# EAGLE library part TM4C123 (library Bat-Components)
Texas Instrument Tiva-C ARM Cortex M4 - TM4C123GH6ZRB 80 Mhz - Flash 256ko - SRAM 32ko 43 I/0 (16 PWM) 24 ADC channels 12-bits resolution 8 UART - 4 SPI - 6 I2C - USB
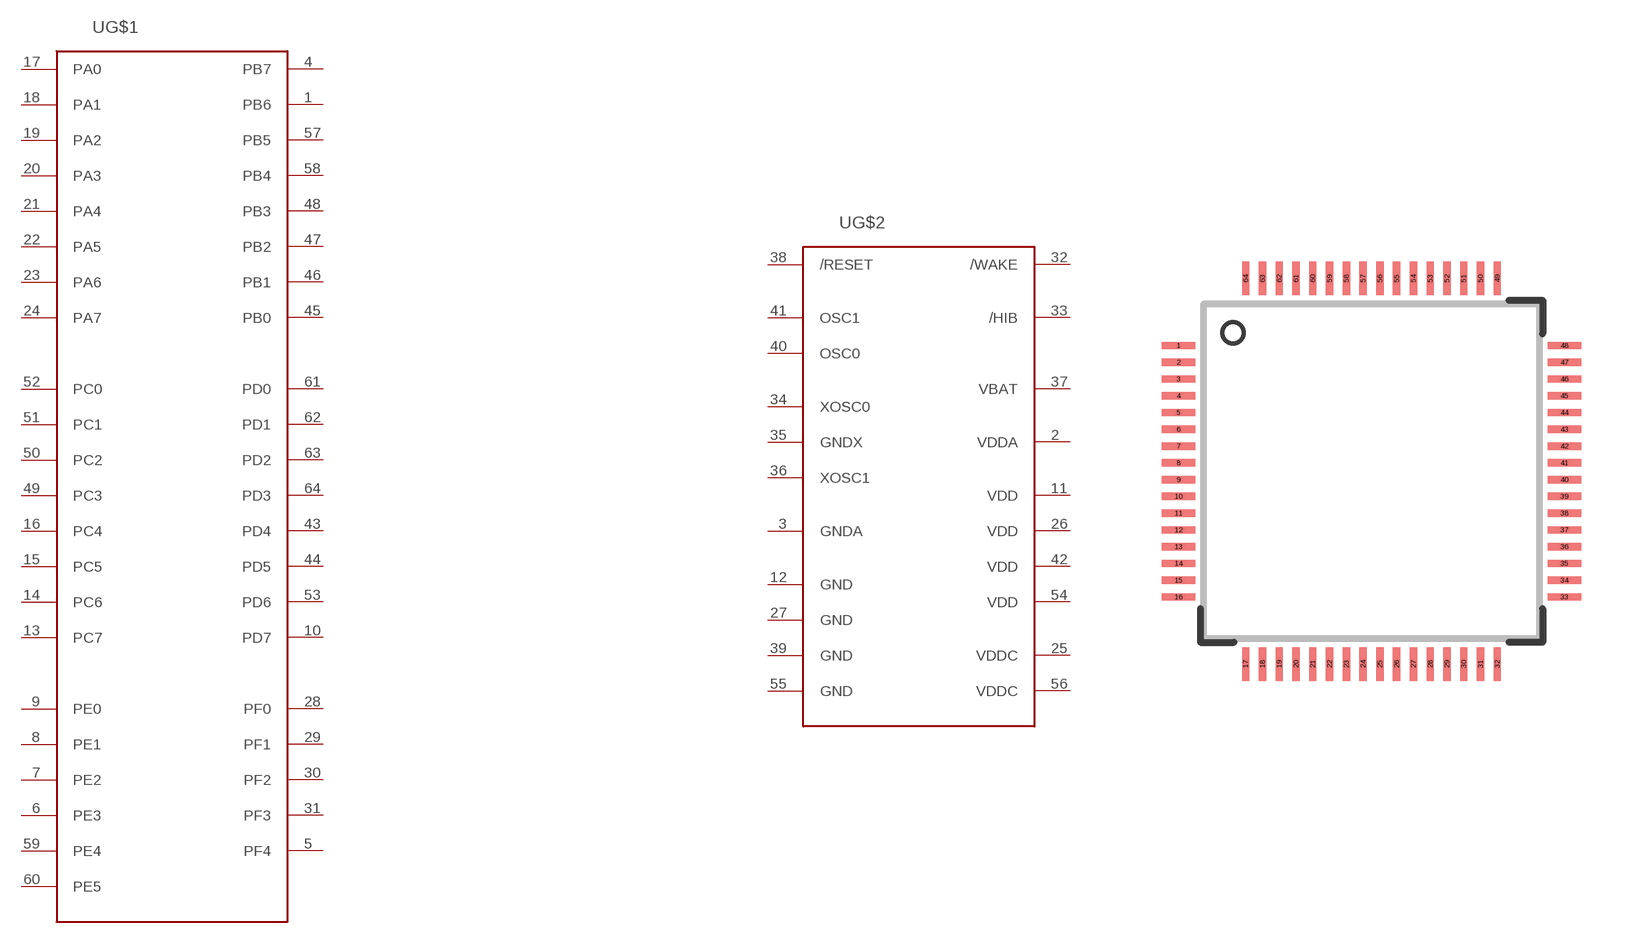
[diagram p0: symbol with the pads of TQFP64; footprint TQFP64]

Designator prefix -; gates G$1=TM4C123_1 G$2=TM4C123_2

## TM4C123  [TQFP64]
1  G$1:PB6
2  G$2:VDDA
3  G$2:GNDA
4  G$1:PB7
5  G$1:PF4
6  G$1:PE3
7  G$1:PE2
8  G$1:PE1
9  G$1:PE0
10  G$1:PD7
11  G$2:VDD
12  G$2:GND
13  G$1:PC7
14  G$1:PC6
15  G$1:PC5
16  G$1:PC4
17  G$1:PA0
18  G$1:PA1
19  G$1:PA2
20  G$1:PA3
21  G$1:PA4
22  G$1:PA5
23  G$1:PA6
24  G$1:PA7
25  G$2:VDDC
26  G$2:VDD
27  G$2:GND
28  G$1:PF0
29  G$1:PF1
30  G$1:PF2
31  G$1:PF3
32  G$2:/WAKE
33  G$2:/HIB
34  G$2:XOSC0
35  G$2:GNDX
36  G$2:XOSC1
37  G$2:VBAT
38  G$2:/RESET
39  G$2:GND
40  G$2:OSC0
41  G$2:OSC1
42  G$2:VDD
43  G$1:PD4
44  G$1:PD5
45  G$1:PB0
46  G$1:PB1
47  G$1:PB2
48  G$1:PB3
49  G$1:PC3
50  G$1:PC2
51  G$1:PC1
52  G$1:PC0
53  G$1:PD6
54  G$2:VDD
55  G$2:GND
56  G$2:VDDC
57  G$1:PB5
58  G$1:PB4
59  G$1:PE4
60  G$1:PE5
61  G$1:PD0
62  G$1:PD1
63  G$1:PD2
64  G$1:PD3

## Footprint TQFP64 (pad centres in mm)
64-Lead TQFP Plastic Thin Quad Flatpack - 10x10x1mm Body, 2mmFP
smd 1 x 0.22: 1 -5.75,4.067; 2 -5.75,3.567; 3 -5.75,3.067; 4 -5.75,2.567; 5 -5.75,2.067; 6 -5.75,1.567; 7 -5.75,1.067; 8 -5.75,0.568; 9 -5.75,0.068; 10 -5.75,-0.432; 11 -5.75,-0.932; 12 -5.75,-1.433; 13 -5.75,-1.933; 14 -5.75,-2.433; 15 -5.75,-2.933; 16 -5.75,-3.433; 33 5.75,-3.433; 34 5.75,-2.933; 35 5.75,-2.433; 36 5.75,-1.933; 37 5.75,-1.433; 38 5.75,-0.932; 39 5.75,-0.432; 40 5.75,0.068; 41 5.75,0.568; 42 5.75,1.067; 43 5.75,1.567; 44 5.75,2.067; 45 5.75,2.567; 46 5.75,3.067; 47 5.75,3.567; 48 5.75,4.067
smd 0.22 x 1: 17 -3.75,-5.433; 18 -3.25,-5.433; 19 -2.75,-5.433; 20 -2.25,-5.433; 21 -1.75,-5.433; 22 -1.25,-5.433; 23 -0.75,-5.433; 24 -0.25,-5.433; 25 0.25,-5.433; 26 0.75,-5.433; 27 1.25,-5.433; 28 1.75,-5.433; 29 2.25,-5.433; 30 2.75,-5.433; 31 3.25,-5.433; 32 3.75,-5.433; 49 3.75,6.067; 50 3.25,6.067; 51 2.75,6.067; 52 2.25,6.067; 53 1.75,6.067; 54 1.25,6.067; 55 0.75,6.067; 56 0.25,6.067; 57 -0.25,6.067; 58 -0.75,6.067; 59 -1.25,6.067; 60 -1.75,6.067; 61 -2.25,6.067; 62 -2.75,6.067; 63 -3.25,6.067; 64 -3.75,6.067